# Altium schematic symbol library PRESSURE.SCHLIB: 2 symbols
Pins are listed as number, name and electrical type; pins without a type are passive.

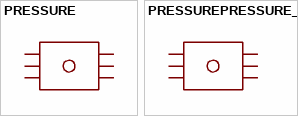
[diagram p0: symbols PRESSURE to PRESSUREPRESSURE_PTH]

## PRESSURE
designator ?
GateName_1: G$1; SymbolName_1: PRESSURE; LibraryName: PRESSURE; DeviceSetName: PRESSURE; Package: PRESSURE_SMD
footprint PRESSURE_SMD
pins: 1 (io), 2 (io), 3 (io), 4 (io), 5 (io), 6 (io)

## PRESSUREPRESSURE_PTH
designator ?
GateName_1: G$1; SymbolName_1: PRESSURE; DeviceName: PRESSURE_PTH; LibraryName: PRESSURE; DeviceSetName: PRESSURE; Package: PRESSURE_PTH
footprint PRESSURE_PTH
pins: 1 (io), 2 (io), 3 (io), 4 (io), 5 (io), 6 (io)